# Altium footprint library button_12mm.PcbLib: 1 footprints
Each footprint in its own frame and in the unit in brackets; x right, y up, seen from the top. Pads: shape width x height; smd on the part's side, far side on the other; paste and mask are expansions set on the pad; w line width, h text height; cw(c..) or ccw(c..) is an arc to the next point about the centre after c.
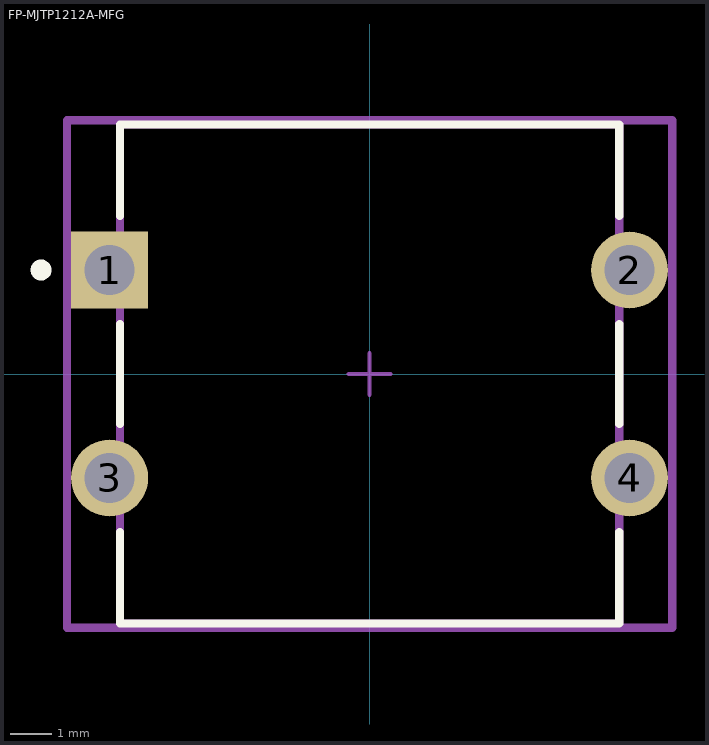
[diagram p0: the footprint, top view; thin cyan lines are the x and y axes]

## FP-MJTP1212A-MFG [mm]
pads (4):
  rect 1.85x1.85 hole 1.2 paste-2539.97 mask+0: 1(-6.25,2.5)
  round 1.85 hole 1.2 paste-2539.97 mask+0: 2(6.25,2.5) 3(-6.25,-2.5) 4(6.25,-2.5)
Top Overlay:
  circle w0.25: c-7.9,2.5 r0.125
  lines w0.2: -6,-3.8 -6,-6 6,-6 6,-3.8 ; -6,-1.2 -6,1.2 ; -6,3.8 -6,6 6,6 6,3.8 ; 6,-1.2 6,1.2
Top Assembly:
  lines w0.2: -7.275,-6.1 7.275,-6.1 7.275,6.1 -7.275,6.1 -7.275,-6.1
  text ".Designator" at 0,0.188 h1
Top 3D Body:
  lines w0.2: -6,-6 6,-6 6,6 -6,6 -6,-6
Top Courtyard:
  lines w0.2: -7.275,-6.1 7.275,-6.1 7.275,6.1 -7.275,6.1 -7.275,-6.1
Top Component Center:
  lines w0.1: -0.5,0 0.5,0 ; 0,-0.5 0,0.5
3D body "Switch_Apem_Inc_MJTP1212A_eec.STEP": height 0.25, standoff 0, extent -7.275,-6.1 7.275,6.1